# Altium schematic symbol library ufl.SchLib: 1 symbol
Pins are listed as number, name and electrical type; pins without a type are passive.

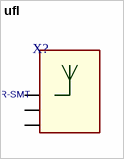
[diagram p0: symbol ufl]

## ufl
designator X?, comment U.FL-R-SMT
PDF: http://www.hirose.co.jp/cataloge_hp/e32119372.pdf; ID: U.FL-R-SMT; PRICE: 1.31000; BUY_LINK: http://www.digikey.com/product-detail/en/U.FL-R-SMT-1(10)/H11891CT-ND/2504612
footprint ufl
pins: 1, 2, 3